# EAGLE library part HD-M324RD (library LED displeje)
LED displej 4 mist
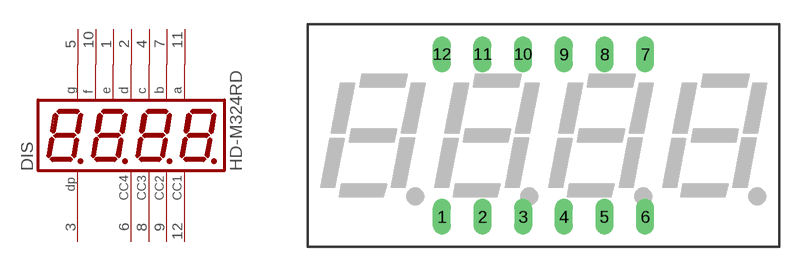
[diagram p5: symbol with the pads of HD-M324; footprint HD-M324]

Designator prefix DIS

## HD-M324RD  [HD-M324]
1  E  pas
2  D  pas
3  DP  pas
4  C  pas
5  G  pas
6  CC4  pas
7  B  pas
8  CC3  pas
9  CC2  pas
10  F  pas
11  A  pas
12  CC1  pas

## Footprint HD-M324 (pad centres in mm)
LED displej 4 mist
drill 0.61 long: 1 -6.35,-5.08; 2 -3.81,-5.08; 3 -1.27,-5.08; 4 1.27,-5.08; 5 3.81,-5.08; 6 6.35,-5.08; 7 6.35,5.08; 8 3.81,5.08; 9 1.27,5.08; 10 -1.27,5.08; 11 -3.81,5.08; 12 -6.35,5.08